# EAGLE library part LSM6DSO32TR (library LSM6DSO32)
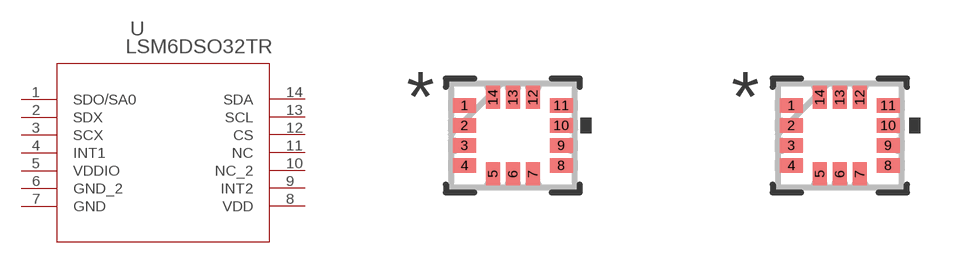
[diagram p0: symbol with the pads of LGA-14L_2P5X3X0P83_STM; footprints LGA-14L_2P5X3X0P83_STM, LGA-14L_2P5X3X0P83_STM-M]

Designator prefix U

## LSM6DSO32TR (COPYRIGHT: Copyright (C) 2022 Ultra Librarian. All rights reserved.; MANUFACTURER_PART_NUMBER: LSM6DSO32TR; MFR_NAME: STMicroelectronics)  [LGA-14L_2P5X3X0P83_STM]
1  SDO/SA0
2  SDX  pas
3  SCX  pas
4  INT1  out
5  VDDIO  pwr
6  GND_2  pas
7  GND  pas
8  VDD  pwr
9  INT2  out
10  NC_2  nc
11  NC  nc
12  CS  in
13  SCL  in
14  SDA

## LSM6DSO32TRLGA-14L_2P5X3X0P83_STM-M (COPYRIGHT: Copyright (C) 2022 Ultra Librarian. All rights reserved.; MANUFACTURER_PART_NUMBER: LSM6DSO32TR; MFR_NAME: STMicroelectronics)  [LGA-14L_2P5X3X0P83_STM-M]
Pads as for LGA-14L_2P5X3X0P83_STM

## LSM6DSO32TRLGA-14L_2P5X3X0P83_STM-L (COPYRIGHT: Copyright (C) 2022 Ultra Librarian. All rights reserved.; MANUFACTURER_PART_NUMBER: LSM6DSO32TR; MFR_NAME: STMicroelectronics)  [LGA-14L_2P5X3X0P83_STM-L]
Pads as for LGA-14L_2P5X3X0P83_STM

## Footprint LGA-14L_2P5X3X0P83_STM (pad centres in mm)
smd 0.577 x 0.352: 1 -1.21,0.75; 2 -1.21,0.25; 3 -1.21,-0.25; 4 -1.21,-0.75; 8 1.21,-0.75; 9 1.21,-0.25; 10 1.21,0.25; 11 1.21,0.75
smd 0.352 x 0.577: 5 -0.5,-0.956; 6 0,-0.956; 7 0.5,-0.956; 12 0.5,0.956; 13 0,0.956; 14 -0.5,0.956

## Footprint LGA-14L_2P5X3X0P83_STM-M (pad centres in mm)
smd 0.577 x 0.352: 1 -1.21,0.75; 2 -1.21,0.25; 3 -1.21,-0.25; 4 -1.21,-0.75; 8 1.21,-0.75; 9 1.21,-0.25; 10 1.21,0.25; 11 1.21,0.75
smd 0.352 x 0.577: 5 -0.5,-0.956; 6 0,-0.956; 7 0.5,-0.956; 12 0.5,0.956; 13 0,0.956; 14 -0.5,0.956

## Footprint LGA-14L_2P5X3X0P83_STM-L (pad centres in mm)
smd 0.577 x 0.352: 1 -1.21,0.75; 2 -1.21,0.25; 3 -1.21,-0.25; 4 -1.21,-0.75; 8 1.21,-0.75; 9 1.21,-0.25; 10 1.21,0.25; 11 1.21,0.75
smd 0.352 x 0.577: 5 -0.5,-0.956; 6 0,-0.956; 7 0.5,-0.956; 12 0.5,0.956; 13 0,0.956; 14 -0.5,0.956